# Altium schematic symbol library RK319-D-7,3728M OSM.Schlib: 1 symbol
Pins are listed as number, name and electrical type; pins without a type are passive.

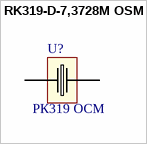
[diagram p0: symbol RK319-D-7,3728M OSM]

## RK319-D-7,3728M OSM
designator U?, comment РК319 ОСМ
Наименование: РК319-Д-7,3728М ОСМ; Назначение: Кварцевый резонатор
footprint RK319
pins: 1, 2